# Altium footprint library mbed-HDK.PCBLIB: 59 footprints (part 1 of 4)
Each footprint in its own frame and in the unit in brackets; x right, y up, seen from the top. Pads: shape width x height; smd on the part's side, far side on the other; paste and mask are expansions set on the pad; w line width, h text height; cw(c..) or ccw(c..) is an arc to the next point about the centre after c.
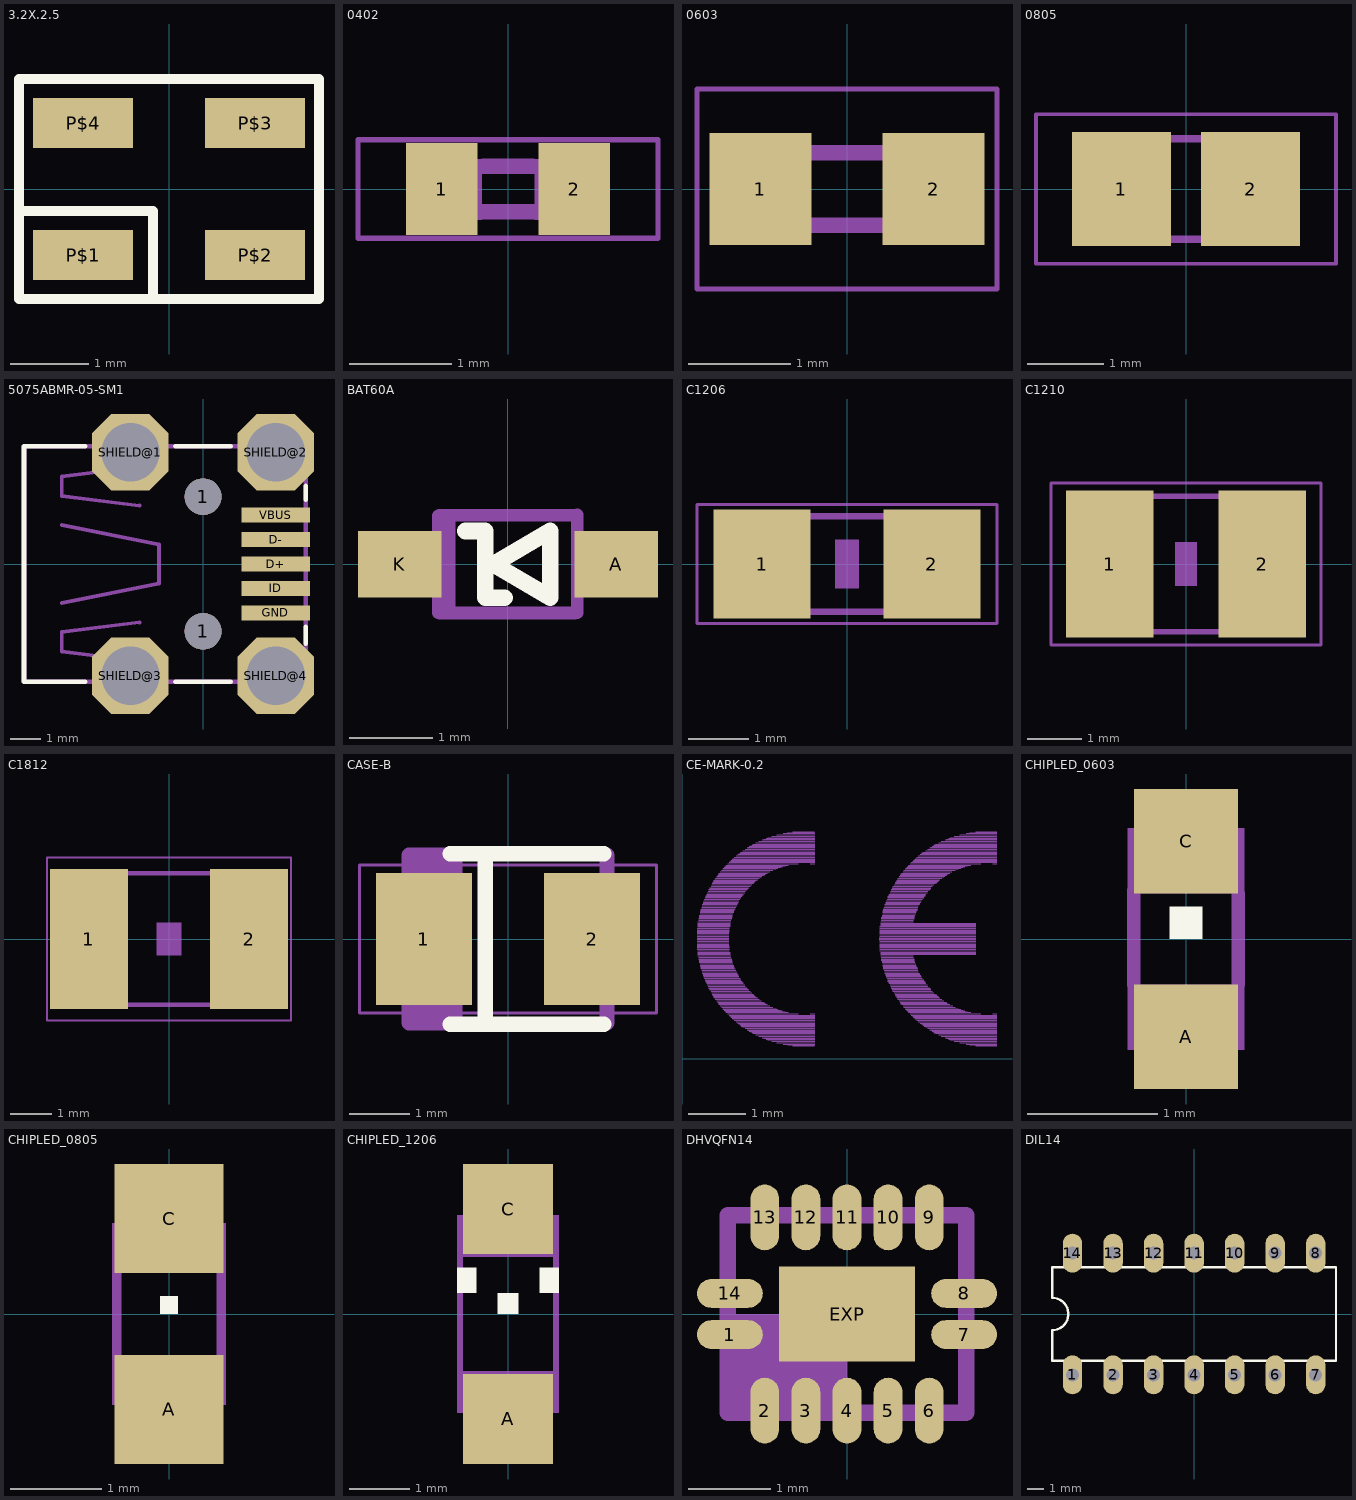
[diagram p0: the footprints below, top view; thin cyan lines are the x and y axes]

## 3.2X.2.5 [mil]
pads (4):
  rect 50x25 smd: P$1(-43,-33) P$2(43,-33) P$3(43,33) P$4(-43,33)
Top Overlay:
  lines w5: -75,-11 -8,-11 -8,-55 ; -75,-11 -75,55 75,55 75,-55 -8,-55 ; -75,-11 -75,-55 -8,-55

## 0402 [mm]
pads (2):
  rect 0.7x0.9 smd: 1(-0.65,0) 2(0.65,0)
Mechanical 16:
  rectangle: -0.554,-0.305 -0.254,0.295
  rectangle: 0.259,-0.305 0.559,0.295
  lines w0.152: -0.245,-0.224 0.245,-0.224 ; -0.245,0.224 0.245,0.224
Mechanical 27:
  lines w0.051: -1.473,-0.483 1.473,-0.483 1.473,0.483 -1.473,0.483 -1.473,-0.483

## 0603 [mm]
pads (2):
  rect 1x1.1 smd: 1(-0.85,0) 2(0.85,0)
Mechanical 16:
  rectangle: 0.432,-0.432 0.838,0.432
  rectangle: -0.838,-0.432 -0.432,0.432
  lines w0.152: -0.432,-0.356 0.432,-0.356 ; -0.432,0.356 0.432,0.356
Mechanical 27:
  lines w0.051: -1.473,-0.983 1.473,-0.983 1.473,0.983 -1.473,0.983 -1.473,-0.983

## 0805 [mm]
pads (2):
  rect 1.3x1.5 smd: 1(-0.85,0) 2(0.85,0)
Mechanical 16:
  rectangle: 0.356,-0.724 1.106,0.726
  rectangle: -1.092,-0.724 -0.342,0.726
  lines w0.102: -0.381,0.66 0.381,0.66 ; -0.356,-0.66 0.381,-0.66
Mechanical 27:
  lines w0.051: -1.973,-0.983 -1.973,0.983 1.973,0.983 1.973,-0.983 -1.973,-0.983

## 5075ABMR-05-SM1 [mil]
pads (11):
  round 47.24 hole 47.24: 1(0,-86.61) 1(0,86.61)
  rect 88.58x19.69 smd: D+(93.5,0) D-(93.5,31.5) GND(93.5,-62.99) ID(93.5,-31.5) VBUS(93.5,62.99)
  oct 98.43x98.43 hole 74.8: SHIELD@1(-93.5,143.7) SHIELD@2(93.5,143.7) SHIELD@3(-93.5,-143.7) SHIELD@4(93.5,-143.7)
Top Overlay:
  lines w6: -151.57,-151.57 -230.32,-151.57 -230.32,151.57 -151.57,151.57 ; -35.43,-151.57 35.43,-151.57 ; -35.43,151.57 35.43,151.57 ; 131.89,-102.36 131.89,-80.71 ; 131.89,82.68 131.89,100.39
Mechanical 16:
  lines w5: -181.69,-50 -56.69,-25 -56.69,25 -181.69,50 ; -81.69,-125 -181.69,-112.5 -181.69,-87.5 -81.69,-75 ; -81.69,75 -181.69,87.5 -181.69,112.5 -81.69,125
  lines w6: -153.54,151.57 -230.32,151.57 -230.32,-151.57 41.34,-151.57 ; -151.57,151.57 -35.43,151.57 ; -33.46,151.57 33.46,151.57 ; 35.43,-151.57 41.34,-151.57 ; 35.43,151.57 131.89,151.57 131.89,80.71 ; 131.89,-102.36 131.89,-104.33 ; 131.89,-80.71 131.89,-78.74 ; 131.89,82.68 131.89,80.71 ; 41.34,-151.57 131.89,-151.57 131.89,-104.33 ; 131.89,-104.33 131.89,-78.74 ; 131.89,-78.74 131.89,80.71

## BAT60A [mm]
pads (2):
  rect 1x0.8 smd: A(1.3,0) K(-1.3,0)
Top Overlay:
  lines w0.203: -0.51,0.397 -0.28,0.397 ; -0.273,-0.4 -0.273,0.4 ; -0.27,-0.403 -0.04,-0.403 ; -0.173,0 0.507,0.4 0.507,-0.4 -0.173,0
Mechanical 16:
  rectangle: 0.78,-0.23 1.31,0.21
  rectangle: -1.3,-0.23 -0.77,0.21
  lines w0.152: -0.837,-0.581 -0.837,0.581 ; -0.821,-0.588 0.801,-0.588 ; -0.821,0.588 0.801,0.588 ; -0.707,-0.581 -0.707,0.581 ; 0.833,-0.581 0.833,0.591

## C1206 [mm]
pads (2):
  rect 1.6x1.8 smd: 1(-1.4,0) 2(1.4,0)
Mechanical 6:
  rectangle: -0.2,-0.4 0.2,0.4
Mechanical 16:
  rectangle: -1.702,-0.851 -0.952,0.849
  rectangle: 0.952,-0.849 1.702,0.851
  lines w0.102: -0.965,-0.787 0.965,-0.787 ; -0.965,0.787 0.965,0.787
Mechanical 27:
  lines w0.051: -2.473,-0.983 2.473,-0.983 2.473,0.983 -2.473,0.983 -2.473,-0.983

## C1210 [mm]
pads (2):
  rect 1.6x2.7 smd: 1(-1.4,0) 2(1.4,0)
Mechanical 6:
  rectangle: -0.2,-0.4 0.2,0.4
Mechanical 16:
  rectangle: -1.702,-1.295 -0.952,1.305
  rectangle: 0.952,-1.305 1.702,1.295
  lines w0.102: -0.965,-1.245 0.965,-1.245 ; -0.965,1.245 0.965,1.245
Mechanical 27:
  lines w0.051: -2.473,-1.483 2.473,-1.483 2.473,1.483 -2.473,1.483 -2.473,-1.483

## C1812 [mm]
pads (2):
  rect 1.9x3.4 smd: 1(-1.95,0) 2(1.95,0)
Mechanical 6:
  rectangle: -0.3,-0.4 0.3,0.4
Mechanical 16:
  rectangle: -2.388,-1.651 -1.438,1.649
  rectangle: 1.448,-1.651 2.398,1.649
  lines w0.102: -1.473,1.6 1.473,1.6 ; -1.448,-1.6 1.473,-1.6
Mechanical 27:
  lines w0.051: -2.973,-1.983 2.973,-1.983 2.973,1.983 -2.973,1.983 -2.973,-1.983

## CASE-B [mm]
pads (2):
  rect 1.6x2.2 smd: 1(-1.4,0) 2(1.4,0)
Top Overlay:
  lines w0.254: -0.965,-1.422 1.6,-1.422 ; -0.965,1.422 1.6,1.422 ; -0.381,-1.397 -0.381,1.397
Mechanical 16:
  lines w0.254: -1.143,-1.27 -1.143,1.27 -1.397,1.27 -1.397,-1.397 -1.651,-1.397 ; 1.651,-1.397 1.651,1.397 ; -1.651,-1.397 -1.651,1.397 -0.889,1.397 -0.889,-1.397 -1.651,-1.397
Mechanical 27:
  lines w0.051: -2.473,-1.237 2.473,-1.237 2.473,1.237 -2.473,1.237 -2.473,-1.237

## CE-MARK-0.2 [mm]
Mechanical 46:
  drawing of 1192 lines, arcs and shapes, not listed

## CHIPLED_0603 [mil]
pads (2):
  rect 31.5x31.5 smd: A(0,-29.53) C(0,29.53)
Top Overlay:
  rectangle: -4.92,0 4.92,9.84
Mechanical 16:
  circle w2: c-13.78,24.61 r2.95
  rectangle: -17.72,27.56 -9.84,33.46
  rectangle: -10.83,21.65 -8.86,23.62
  rectangle: -17.72,13.78 -15.75,28.54
  rectangle: 9.84,21.65 17.72,33.46
  rectangle: -17.72,13.78 17.72,22.64
  rectangle: -17.72,-33.46 -9.84,-13.78
  rectangle: 9.84,-33.46 17.72,-13.78
  rectangle: -10.83,-22.64 10.83,-13.78
  rectangle: -10.83,-25.59 -6.89,-21.65
  rectangle: 6.89,-25.59 10.83,-21.65
  lines w2: -10.83,-32.48 cw(c0,-32.48) 10.83,-32.48
  lines w4: -15.75,-13.78 -15.75,14.76 ; -11.81,31.5 ccw(c0,32.53) 11.81,31.5 ; 15.75,-13.78 15.75,13.78

## CHIPLED_0805 [mm]
pads (2):
  rect 1.2x1.2 smd: A(0,-1.05) C(0,1.05)
Top Overlay:
  rectangle: -0.1,0 0.1,0.2
Mechanical 16:
  circle w0.102: c-0.45,0.85 r0.103
  rectangle: 0.3,0.5 0.625,1
  rectangle: -0.325,0.5 -0.175,0.75
  rectangle: 0.175,0.5 0.325,0.75
  rectangle: -0.2,0.5 0.2,0.675
  rectangle: 0.3,-1 0.625,-0.5
  rectangle: -0.625,-1 -0.3,-0.5
  rectangle: 0.175,-0.75 0.325,-0.5
  rectangle: -0.325,-0.75 -0.175,-0.5
  rectangle: -0.2,-0.675 0.2,-0.5
  rectangle: -0.6,0.5 -0.3,0.8
  rectangle: -0.625,0.925 -0.3,1
  lines w0.102: -0.575,-0.5 -0.575,0.925 ; -0.35,-0.925 cw(c0,-0.979) 0.35,-0.925 ; -0.35,0.925 ccw(c0,0.979) 0.35,0.925 ; 0.575,-0.525 0.575,0.525

## CHIPLED_1206 [mm]
pads (2):
  rect 1.5x1.5 smd: A(0,-1.75) C(0,1.75)
Top Overlay:
  rectangle: -0.85,0.35 -0.525,0.775
  rectangle: 0.525,0.35 0.85,0.775
  rectangle: -0.175,0 0.175,0.35
Mechanical 16:
  circle w0.102: c-0.55,1.425 r0.1
  rectangle: -0.85,1.525 -0.35,1.65
  rectangle: -0.85,1.225 -0.625,1.55
  rectangle: -0.45,1.225 -0.325,1.45
  rectangle: -0.65,1.225 -0.225,1.35
  rectangle: 0.35,1.3 0.85,1.65
  rectangle: 0.25,1.225 0.85,1.35
  rectangle: -0.85,0.95 0.85,1.25
  rectangle: -0.85,-1.65 0.85,-0.95
  lines w0.102: -0.8,-0.95 -0.8,0.95 ; -0.4,1.6 ccw(c0,1.626) 0.4,1.6 ; 0.8,-0.95 0.8,0.95

## DHVQFN14 [mm]
pads (15):
  rrect100% 0.8x0.35 smd: 1(-1.425,-0.25) 7(1.425,-0.25) 8(1.425,0.25) 14(-1.425,0.25)
  rrect100% 0.35x0.8 smd: 2(-1,-1.175) 3(-0.5,-1.175) 4(0,-1.175) 5(0.5,-1.175) 6(1,-1.175) 9(1,1.175) 10(0.5,1.175) 11(0,1.175) 12(-0.5,1.175) 13(-1,1.175)
  rect 1.65x1.15 smd: EXP(0,0)
Top Solder:
  rectangle: -0.875,-0.625 0.875,0.625
  lines w0.4: -1.65,-0.25 -1.2,-0.25 ; -1.65,0.25 -1.2,0.25 ; -1,-1.4 -1,-0.95 ; -1,0.95 -1,1.4 ; -0.5,-1.4 -0.5,-0.95 ; -0.5,0.95 -0.5,1.4 ; 0,-1.4 0,-0.95 ; 0,0.95 0,1.4 ; 0.5,-1.4 0.5,-0.95 ; 0.5,0.95 0.5,1.4 ; 1,-1.4 1,-0.95 ; 1,0.95 1,1.4 ; 1.2,-0.25 1.65,-0.25 ; 1.2,0.25 1.65,0.25
Mechanical 16:
  rectangle: -1.4,-1.15 0,0
  lines w0.203: -1.45,-1.2 -1.45,1.2 1.45,1.2 1.45,-1.2 -1.45,-1.2

## DIL14 [mil]
pads (14):
  oval 48x96 hole 32: 1(-300,-150) 2(-200,-150) 3(-100,-150) 4(0,-150) 5(100,-150) 6(200,-150) 7(300,-150) 8(300,150) 9(200,150) 10(100,150) 11(0,150) 12(-100,150) 13(-200,150) 14(-300,150)
Top Overlay:
  lines w6: -350,-115 350,-115 350,115 -350,115 -350,40 cw(c-350,0) -350,-40 -350,-115